# EAGLE library part LT3750 (library PowerProducts)
LT-Spice library generated with : ltspice.ulp from: D:/Program Files (x86)/LTC/LTspiceIV/lib/sym/PowerProducts/LT3751*.asy at 07.10.2012 16:36:34
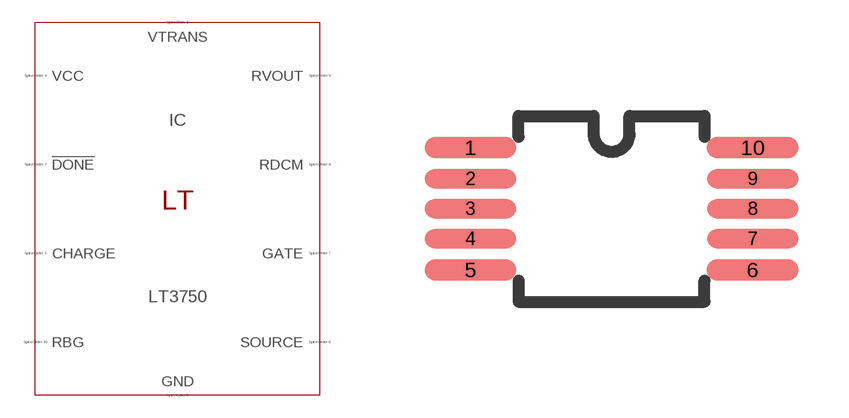
[diagram p95: symbol with the pads of MSOP10(MS); footprint MSOP10(MS)]

Designator prefix IC

## LT3750 (SPICEMODEL: LT3750.sub; SPICEPREFIX: X; VALUE2: LT3750)  [MSOP10(MS)]
1  VTRANS  pas
2  !DONE  pas
3  CHARGE  pas
4  VCC  pas
5  GND  pas
6  SOURCE  pas
7  GATE  pas
8  RDCM  pas
9  RVOUT  pas
10  RBG  pas

## Footprint MSOP10(MS) (pad centres in mm)
Package generated from: MSOP10(MS).asc (!PADS-POWERPCB-V5.0-BASIC! DESIGN DATABASE ASCII FILE 1.0) with :import-pads-powerpcb-v5.ulp Version 1.0.1 at 04.10.2012 14:11:19
smd 2.295 x 0.54: 1 -3.529,1.53; 5 -3.529,-1.53; 6 3.529,-1.53; 10 3.529,1.53
smd 2.295 x 0.48: 2 -3.529,0.75; 3 -3.529,0; 4 -3.529,-0.75; 7 3.529,-0.75; 8 3.529,0; 9 3.529,0.75